# EAGLE library part TLC59108 (library balto)
TLC59108 8-Bit Fm+ I2C-BusConstant-CurrentLED Sink Driver
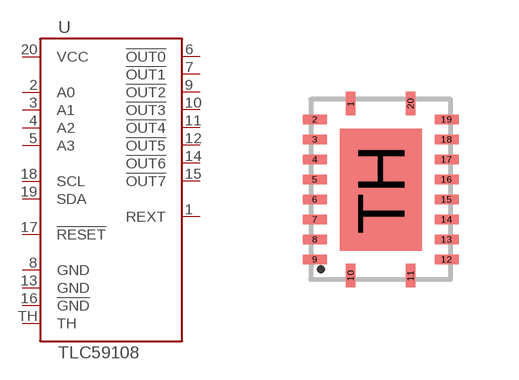
[diagram p58: symbol with the pads of VQFN20; footprint VQFN20]

Designator prefix U

## TLC59108  [VQFN20]
1  REXT
2  A0
3  A1
4  A2
5  A3
6  !OUT0
7  !OUT1
8  GND
9  !OUT2
10  !OUT3
11  !OUT4
12  !OUT5
13  GND
14  !OUT6
15  !OUT7
16  !GND
17  !RESET
18  SCL
19  SDA
20  VCC
TH  TH

## Footprint VQFN20 (pad centres in mm)
VQFN20
smd 0.24 x 0.6: 1 -0.75,2.15; 10 -0.75,-2.15; 11 0.75,-2.15; 20 0.75,2.15
smd 0.6 x 0.24: 2 -1.65,1.75; 3 -1.65,1.25; 4 -1.65,0.75; 5 -1.65,0.25; 6 -1.65,-0.25; 7 -1.65,-0.75; 8 -1.65,-1.25; 9 -1.65,-1.75; 12 1.65,-1.75; 13 1.65,-1.25; 14 1.65,-0.75; 15 1.65,-0.25; 16 1.65,0.25; 17 1.65,0.75; 18 1.65,1.25; 19 1.65,1.75
smd 2.05 x 3.05: TH 0,0